# EAGLE library part SX1262-LORA-MODULE-V1.1 (library angrypig7-Boards)
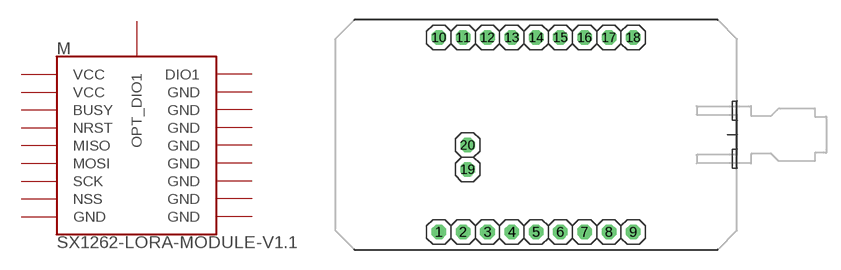
[diagram p5: symbol with the pads of SX1262-LORA-MODULE-V1.1; footprint SX1262-LORA-MODULE-V1.1]

Designator prefix M

## SX1262-LORA-MODULE-V1.1  [SX1262-LORA-MODULE-V1.1]
1  VCC
2  VCC
3  BUSY
4  NRST
5  MISO
6  MOSI
7  SCK
8  NSS
9  GND
10  DIO1
11  GND
12  GND
13  GND
14  GND
15  GND
16  GND
17  GND
18  GND
19  OPT_DIO1
20  OPT_DIO1

## Footprint SX1262-LORA-MODULE-V1.1 (pad centres in mm)
drill 1.016 octagon: 1 -10.16,-10.16; 2 -7.62,-10.16; 3 -5.08,-10.16; 4 -2.54,-10.16; 5 0,-10.16; 6 2.54,-10.16; 7 5.08,-10.16; 8 7.62,-10.16; 9 10.16,-10.16; 10 -10.16,10.16; 11 -7.62,10.16; 12 -5.08,10.16; 13 -2.54,10.16; 14 0,10.16; 15 2.54,10.16; 16 5.08,10.16; 17 7.62,10.16; 18 10.16,10.16; 19 -7.155,-3.619; 20 -7.155,-1.079